# Altium footprint library DS18B20&plus_.PcbLib: 1 footprints
Each footprint in its own frame and in the unit in brackets; x right, y up, seen from the top. Pads: shape width x height; smd on the part's side, far side on the other; paste and mask are expansions set on the pad; w line width, h text height; cw(c..) or ccw(c..) is an arc to the next point about the centre after c.
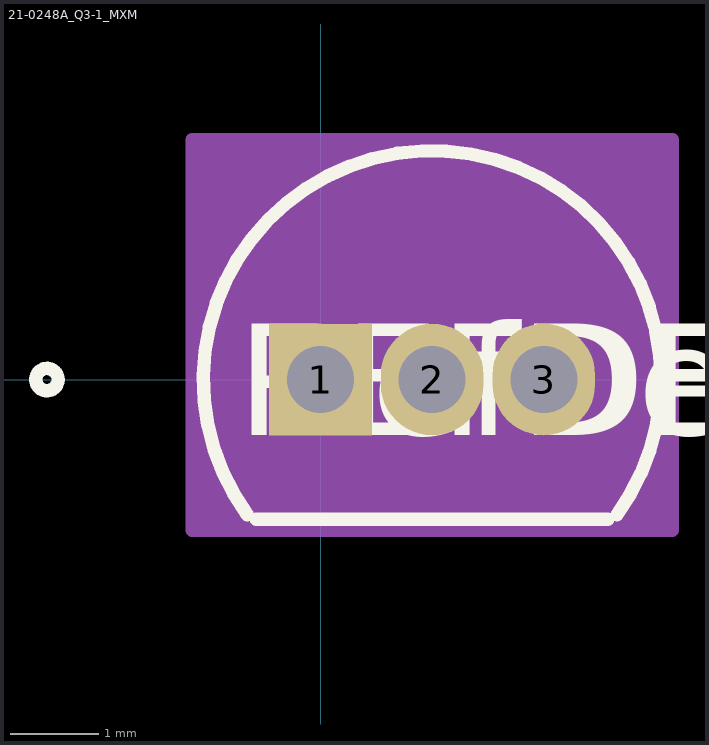
[diagram p0: the footprint, top view; thin cyan lines are the x and y axes]

## 21-0248A_Q3-1_MXM [mil]
pads (3):
  rect 46x50 / inner round 60 / far side rect 46x50 hole 30 paste-25 mask+0: 1(0,0)
  oval 46x50 / inner round 60 / far side oval 46x50 hole 30 paste-25 mask+0: 2(50,0) 3(100,0)
Top Overlay:
  circle w6: c-122.5,0 r5
  lines w6: -32.78,-60.45 cw(c50,0) 152.5,0 cw(c50,0) 132.78,-60.45 ; -28.74,-62.5 128.74,-62.5
  text "RefDes" at -25,-25 h50
  text "REFDES" at -37.5,-25 h50
Mechanical 13:
  circle w0: c-37.5,0 r5
  lines w0: -28.74,-57.5 cw(c50,0) 128.74,-57.5
  lines w1: -28.74,-57.5 128.74,-57.5
  lines w6: -10,0 10,0 ; 0,-10 0,10
  text "RefDes2" at -37.5,-25 h50
Mechanical 15:
  region: 157.5,-67.5 -57.5,-67.5 -57.5,107.5 157.5,107.5
  lines w6: -57.5,-67.5 -57.5,107.5 157.5,107.5 157.5,-67.5 -57.5,-67.5
3D body "21-0248A_Q3-1_MXM.step": height 195, standoff -180, extent -47.5,-37.48 147.5,97.5